# EAGLE library part CC1020 (library chipcon-ti-V2)
Single Chip Low Power RF Transceiver for Narrowband Systems
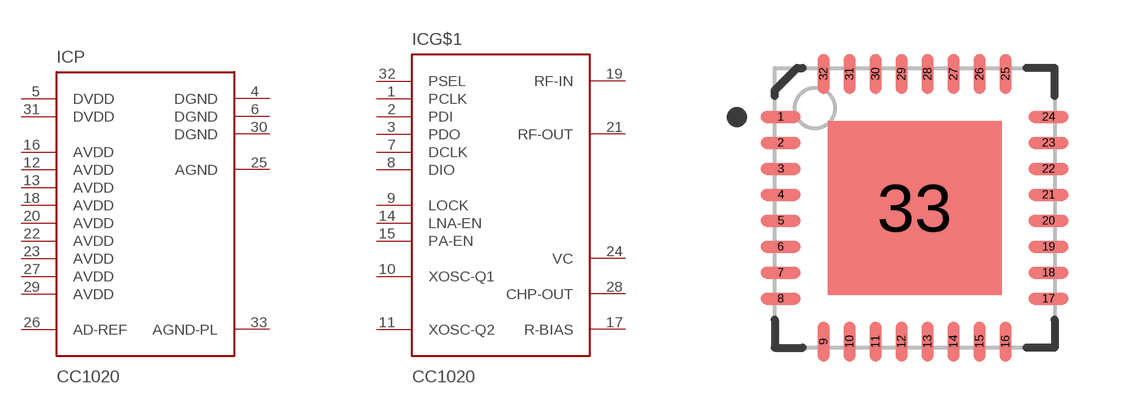
[diagram p0: symbol with the pads of QFN65P700X700X100-33N; footprint QFN65P700X700X100-33N]

Designator prefix IC; gates G$1=CC1020 P=CC1020-PWR

## CC1020  [QFN65P700X700X100-33N]
1  G$1:PCLK  in
2  G$1:PDI  in
3  G$1:PDO  out
4  P:DGND  pwr
5  P:DVDD  pwr
6  P:DGND  pwr
7  G$1:DCLK  out
8  G$1:DIO
9  G$1:LOCK  out
10  G$1:XOSC-Q1  in
11  G$1:XOSC-Q2  out
12  P:AVDD  pwr
13  P:AVDD  pwr
14  G$1:LNA-EN  out
15  G$1:PA-EN  out
16  P:AVDD  pwr
17  G$1:R-BIAS  out
18  P:AVDD  pwr
19  G$1:RF-IN  in
20  P:AVDD  pwr
21  G$1:RF-OUT  out
22  P:AVDD  pwr
23  P:AVDD  pwr
24  G$1:VC  in
25  P:AGND  pwr
26  P:AD-REF  pwr
27  P:AVDD  pwr
28  G$1:CHP-OUT  out
29  P:AVDD  pwr
30  P:DGND  pwr
31  P:DVDD  pwr
32  G$1:PSEL  in
33  P:AGND-PL  pwr

## Footprint QFN65P700X700X100-33N (pad centres in mm)
QFN,0.65mm pitch,square;32 pin,7.00mm L X 7.00mm W X 1.00mm H body (w/thermal tab)
smd 1 x 0.3: 1 -3.35,2.275; 2 -3.35,1.625; 3 -3.35,0.975; 4 -3.35,0.325; 5 -3.35,-0.325; 6 -3.35,-0.975; 7 -3.35,-1.625; 8 -3.35,-2.275; 17 3.35,-2.275; 18 3.35,-1.625; 19 3.35,-0.975; 20 3.35,-0.325; 21 3.35,0.325; 22 3.35,0.975; 23 3.35,1.625; 24 3.35,2.275
smd 0.3 x 1: 9 -2.275,-3.35; 10 -1.625,-3.35; 11 -0.975,-3.35; 12 -0.325,-3.35; 13 0.325,-3.35; 14 0.975,-3.35; 15 1.625,-3.35; 16 2.275,-3.35; 25 2.275,3.35; 26 1.625,3.35; 27 0.975,3.35; 28 0.325,3.35; 29 -0.325,3.35; 30 -0.975,3.35; 31 -1.625,3.35; 32 -2.275,3.35
smd 4.35 x 4.35: 33 0,0